# Altium footprint library Generic Connector.PcbLib: 143 footprints (part 1 of 9)
Each footprint in its own frame and in the unit in brackets; x right, y up, seen from the top. Pads: shape width x height; smd on the part's side, far side on the other; paste and mask are expansions set on the pad; w line width, h text height; cw(c..) or ccw(c..) is an arc to the next point about the centre after c.
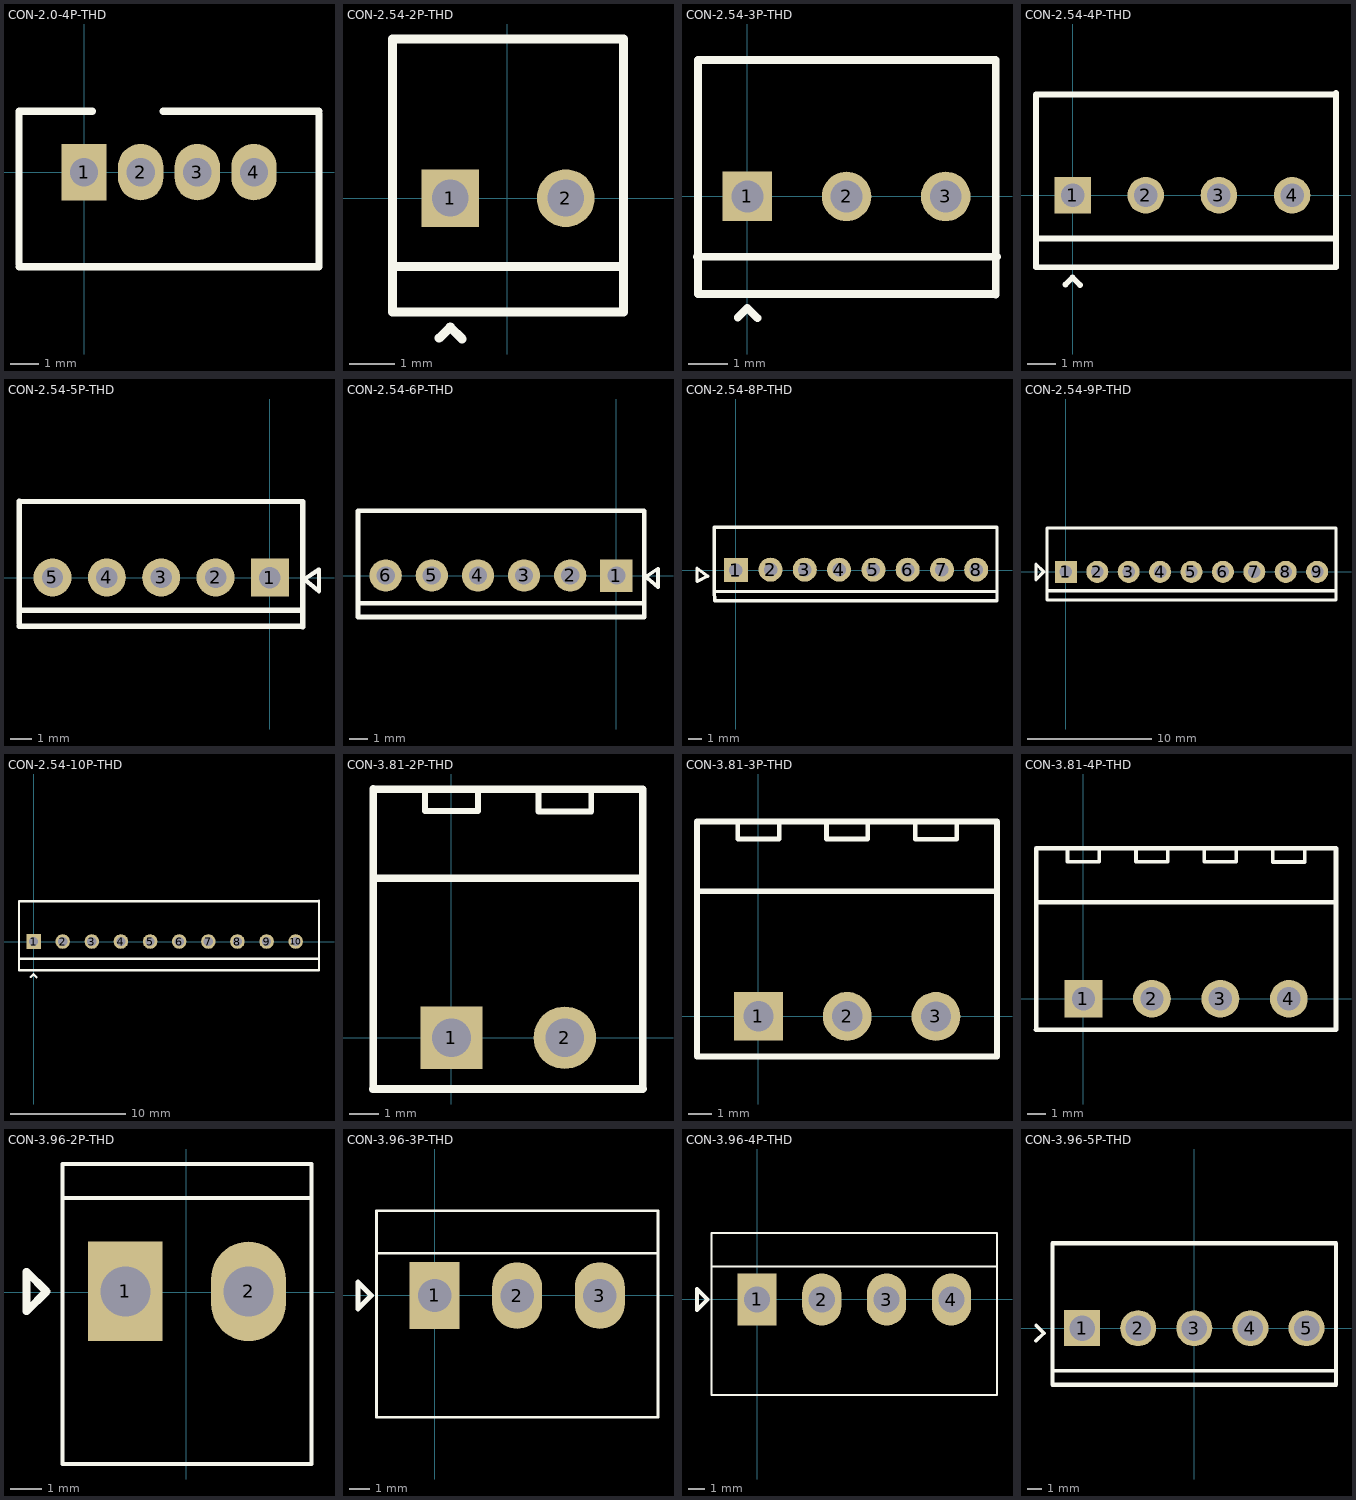
[diagram p0: the footprints below, top view; thin cyan lines are the x and y axes]

## CON-2.0-4P-THD [mm]
pads (4):
  rect 1.6x2 hole 1: 1(0,0)
  oval 1.6x2 hole 1: 2(2,0) 3(4,0) 4(6,0)
Top Overlay:
  lines w0.254: -2.3,-3.344 8.3,-3.344 8.3,2.056 ; -2.3,-3.25 -2.3,2.15 0.3,2.15 ; 2.8,2.15 8.3,2.15

## CON-2.54-2P-THD [mil]
pads (2):
  rect 50x50 hole 32: 1(-49.55,0.06)
  round 50 hole 32: 2(50.45,0.06)
Top Overlay:
  lines w7.87: -99.55,-58.99 100.02,-58.99 ; -59.16,-121.12 -49.55,-111.51 -39.24,-121.83 ; -99.55,-98.36 100.45,-98.36 100.45,137.86 -99.55,137.86 -99.55,-98.36

## CON-2.54-3P-THD [mil]
pads (3):
  rect 50x50 hole 32: 1(0,0)
  round 50 hole 32: 2(100,0) 3(200,0)
Top Overlay:
  lines w7.87: -50.87,-60.79 251.76,-60.79 ; -9.69,-122.05 -0.08,-112.44 10.24,-122.76 ; 250.1,-98.42 -50,-98.42 -50,137.79 250.1,137.79 ; 250.52,-98.94 250.52,137.28

## CON-2.54-4P-THD [mil]
pads (4):
  rect 50x50 hole 32: 1(0,0)
  round 50 hole 32: 2(100,0) 3(200,0) 4(300,0)
Top Overlay:
  lines w7.87: -50,-59.05 360,-59.05 ; -9.69,-122.05 -0.08,-112.44 10.24,-122.76 ; 360,-98.42 -50,-98.42 -50,137.79 360,137.79 ; 360,-96.22 360,140

## CON-2.54-5P-THD [mil]
pads (5):
  rect 70x70 hole 39.37: 1(0,0)
  round 70 hole 39.37: 2(-100,0.35) 3(-200,0.35) 4(-300,0.35) 5(-400,0.35)
Top Overlay:
  lines w7.87: 60.33,-5 90.33,15 90.33,-25 60.33,0
  lines w10: -461.63,-89.65 60.33,-89.65 ; -461.08,-83.56 -461.08,139.54 ; -461.02,140.3 60.33,140 60.33,-60 -459.41,-59.7 ; 60.33,-90 60.33,-50

## CON-2.54-6P-THD [mil]
pads (6):
  rect 70x70 hole 39.37: 1(0,0)
  round 70 hole 39.37: 2(-100,0.35) 3(-200,0.35) 4(-300,0.35) 5(-400,0.35) 6(-500,0.35)
Top Overlay:
  lines w7.87: 60.33,-5 90.33,15 90.33,-25 60.33,0
  lines w10: -560,-59.65 60.33,-60 60.33,140 -560,140.35 -560,-89.65 60.33,-89.65 ; 60.33,-90 60.33,-50

## CON-2.54-8P-THD [mil]
pads (8):
  rect 70x70 hole 39.37: 1(0,0)
  round 70 hole 39.37: 2(101,1) 3(201,1) 4(301,1) 5(401,1) 6(501,1) 7(601,1) 8(701,1)
Top Overlay:
  lines w10: 761.54,-48.98 761.54,-89.49 -62,-89.49 -62.6,-62.6 ; -62.6,-62.6 761.54,-62.72 761.54,84.73 761.54,124.54 100.95,124.54 -12.59,124.54 -62.72,124.54 -62.72,112.01 -62.72,89.89 -62.6,-62.6 ; -113.41,-33.42 -82.17,-18.01 -113.41,5.32 -113.41,-33.42

## CON-2.54-9P-THD [mil]
pads (9):
  rect 70x70 hole 39.37: 1(0.46,0.04)
  round 70 hole 39.37: 2(100.46,0.04) 3(200.46,0.04) 4(300.46,0.04) 5(400.46,0.04) 6(500.46,0.04) 7(600.46,0.04) 8(700.46,0.04) 9(800.46,0.04)
Top Overlay:
  lines w10: -59.54,-59.97 860.46,-59.97 ; 860.46,-59.97 860.46,-89.97 -59.54,-89.97 -59.54,140.03 860.46,140.03 860.46,-59.97 ; -94.54,-24.96 -69.54,0.04 -94.54,25.04 -94.54,-24.96

## CON-2.54-10P-THD [mil]
pads (10):
  rect 50x50 hole 32: 1(0,0)
  round 50 hole 32: 2(100,0) 3(200,0) 4(300,0) 5(400,0) 6(500,0) 7(600,0) 8(700,0) 9(800,0) 10(900,0)
Top Overlay:
  lines w7.87: -50,-59.06 980,-59.06 ; -9.69,-122.05 -0.08,-112.44 10.24,-122.76 ; 980,-98.42 -50,-98.42 -50,137.79 980,137.79 ; 980,-96.22 980,140

## CON-3.81-2P-THD [mm]
pads (2):
  rect 2.1x2.1 hole 1.3: 1(0,0)
  round 2.1 hole 1.3: 2(3.813,-0.003)
Top Overlay:
  lines w0.2: -0.889,8.366 -0.889,7.62 0.889,7.62 0.889,8.366 ; 2.924,8.363 2.924,7.617 4.702,7.617 4.702,8.363
  lines w0.254: -2.637,5.372 6.432,5.372 6.436,5.376 ; -2.637,8.366 -2.636,8.367 ; -2.637,8.366 6.436,8.366 6.436,-1.714 6.444,-1.721 6.439,-1.726 -2.642,-1.726 -2.637,-1.721 -2.637,8.366

## CON-3.81-3P-THD [mm]
pads (3):
  rect 2.1x2.1 hole 1.3: 1(0,0)
  round 2.1 hole 1.3: 2(3.813,-0.003) 3(7.626,-0.006)
Top Overlay:
  lines w0.2: -0.889,8.366 -0.889,7.62 0.889,7.62 0.889,8.366 ; 2.924,8.363 2.924,7.617 4.702,7.617 4.702,8.363 ; 6.737,8.36 6.737,7.614 8.515,7.614 8.515,8.36
  lines w0.254: -2.637,5.372 10.25,5.372 ; 10.25,-1.726 -2.642,-1.726 -2.637,-1.721 -2.637,8.366 ; 10.25,-1.717 10.25,8.363 ; 10.25,8.366 -2.637,8.366 ; -2.637,8.366 -2.636,8.367

## CON-3.81-4P-THD [mm]
pads (4):
  rect 2.1x2.1 hole 1.3: 1(0,0)
  round 2.1 hole 1.3: 2(3.813,-0.003) 3(7.626,-0.006) 4(11.44,-0.01)
Top Overlay:
  lines w0.2: -0.889,8.366 -0.889,7.62 0.889,7.62 0.889,8.366 ; 2.924,8.363 2.924,7.617 4.702,7.617 4.702,8.363 ; 6.737,8.36 6.737,7.614 8.515,7.614 8.515,8.36 ; 10.551,8.357 10.551,7.61 12.329,7.61 12.329,8.357
  lines w0.254: -2.637,5.372 14.063,5.372 ; 14.063,-1.726 -2.642,-1.726 -2.637,-1.721 -2.637,8.366 ; 14.063,-1.72 14.063,8.36 ; 14.063,8.366 -2.637,8.366 ; -2.637,8.366 -2.636,8.367

## CON-3.96-2P-THD [mm]
pads (2):
  rect 2.4x3.2 hole 1.6: 1(-1.963,0.02)
  oval 2.4x3.2 hole 1.6: 2(1.997,0.02)
Top Overlay:
  lines w0.127: -3.983,3.02 4.017,3.02 ; -3.983,-5.53 4.017,-5.53 4.017,4.12 -3.983,4.12 -3.983,-5.53
  lines w0.254: -5.138,-0.615 -4.503,0.02 -5.138,0.655 -5.138,-0.615

## CON-3.96-3P-THD [mm]
pads (3):
  rect 2.4x3.2 hole 1.6: 1(0,0)
  oval 2.4x3.2 hole 1.6: 2(3.96,-0.006) 3(7.931,-0.006)
Top Overlay:
  lines w0.127: -2.794,2.032 10.725,2.032 ; 10.725,4.056 10.725,-5.842 -2.794,-5.842 -2.794,4.064 10.725,4.064
  lines w0.254: -3.683,-0.635 -3.048,0 -3.683,0.635 -3.683,-0.635

## CON-3.96-4P-THD [mm]
pads (4):
  rect 2.4x3.2 hole 1.6: 1(0,0)
  oval 2.4x3.2 hole 1.6: 2(3.96,-0.006) 3(7.931,-0.006) 4(11.902,-0.006)
Top Overlay:
  lines w0.127: -2.794,2.032 14.696,2.032 ; 14.696,4.056 14.696,-5.842 -2.794,-5.842 -2.794,4.064 14.696,4.064
  lines w0.254: -3.683,-0.635 -3.048,0 -3.683,0.635 -3.683,-0.635

## CON-3.96-5P-THD [mm]
pads (5):
  rect 2.54x2.54 hole 1.8: 1(-7.909,-0.001)
  round 2.54 hole 1.8: 2(-3.949,-0.001) 3(0.011,-0.001) 4(3.971,-0.001) 5(7.931,-0.001)
Top Overlay:
  lines w0.254: -11.159,-0.899 -10.615,-0.355 ; -11.147,0.186 -10.594,-0.367 ; -9.989,-3.001 9.933,-3.001
  lines w0.305: -9.989,-4.001 -9.989,5.999 10.011,5.999 10.011,-4.001 -9.989,-4.001